# Altium footprint library adafruit.PCBLIB: 643 footprints (part 24 of 41)
Each footprint in its own frame and in the unit in brackets; x right, y up, seen from the top. Pads: shape width x height; smd on the part's side, far side on the other; paste and mask are expansions set on the pad; w line width, h text height; cw(c..) or ccw(c..) is an arc to the next point about the centre after c.
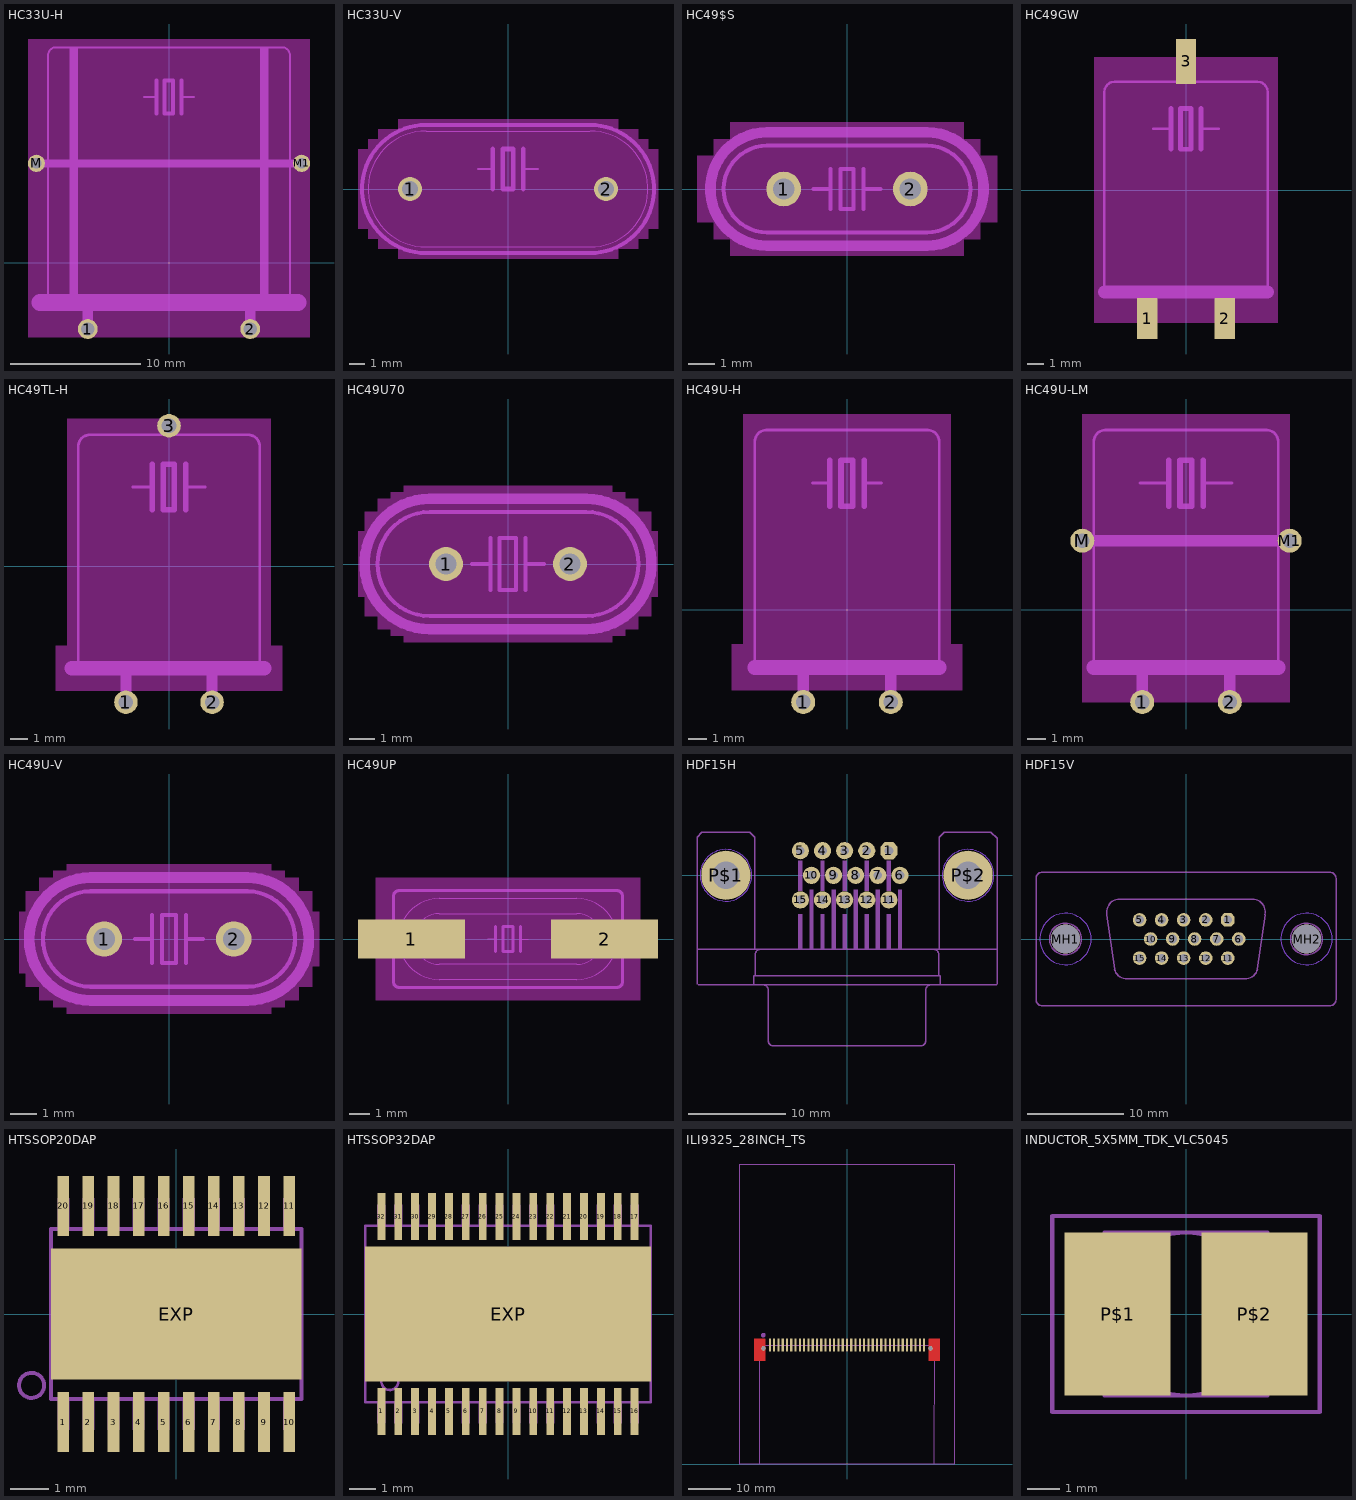
[diagram p23: the footprints below, top view; thin cyan lines are the x and y axes]

## HC33U-H [mil]
pads (4):
  round 60 hole 40: 1(-245,-200) 2(245,-200)
  round 52 hole 32: M(-400,300) M1(400,300)
Top keep-out:
  region: -425,-225 -425,675 425,675 425,-225
tDocu:
  lines w6: -365,280 -365,320 ; 365,280 365,320
  lines w24: -400,300 -360,300 ; 360,300 400,300
  lines w32: -245,-200 -245,-125 ; 245,-200 245,-125
tPlace:
  region: -300,-125 -300,650 -275,650 -275,-125
  region: 275,-125 275,650 300,650 300,-125
  lines w6: -365,-120 -365,280 ; -365,320 -365,625 cw(c-340,625) -340,650 340,650 cw(c340,625) 365,625 365,320 ; -75,500 -37,500 ; 37,500 75,500 ; 365,-120 365,280
  lines w12: -37,450 -37,500 -37,550 ; 37,450 37,500 37,550 ; -13,450 -13,550 12,550 12,450 -13,450
  lines w24: -355,300 355,300
  lines w50: -390,-120 -365,-120 365,-120 390,-120

## HC33U-V [mil]
pads (2):
  round 60 hole 40: 1(-245,0) 2(245,0)
Top keep-out:
  region: -325,-150 -325,150 -275,150 -275,-150
  region: -350,-125 -350,125 -325,125 -325,-125
  region: -375,-100 -375,100 -350,100 -350,-100
  region: -275,-175 -275,175 275,175 275,-175
  region: 275,-150 275,150 325,150 325,-150
  region: 325,-125 325,125 350,125 350,-125
  region: 350,-100 350,100 375,100 375,-100
tPlace:
  lines w2: -205,-145 205,-145 ccw(c205,0) 205,145 -205,145 ccw(c-205,0) -205,-145
  lines w6: -75,50 -38,50 ; 38,50 75,50
  lines w10: -205,-160 205,-160 ccw(c205,0) 205,160 -205,160 ccw(c-205,0) -205,-160
  lines w12: -38,0 -38,50 -38,100 ; 38,0 38,50 38,100 ; -13,0 -13,100 13,100 13,0 -13,0

## HC49$S [mil]
pads (2):
  round 52 hole 32: 1(-95,0) 2(95,0)
Top keep-out:
  region: -175,-100 -175,100 175,100 175,-100
  region: -200,-75 -200,75 -175,75 -175,-75
  region: -225,-50 -225,50 -200,50 -200,-50
  region: 175,-75 175,75 200,75 200,-75
  region: 200,-50 200,50 225,50 225,-50
tPlace:
  lines w6: -50,0 -25,0 ; -25,-30 -25,0 ; -25,30 -25,0 ; 25,-30 25,0 ; 25,30 25,0 ; 50,0 25,0 ; -120,-65 120,-65 ccw(c120,0) 120,65 -120,65 ccw(c-120,0) -120,-65 ; -10,-30 10,-30 10,30 -10,30 -10,-30
  lines w16: -120,-85 120,-85 ccw(c120,0) 120,85 -120,85 ccw(c-120,0) -120,-85

## HC49GW [mil]
pads (3):
  rect 50x100 smd: 1(-95,-315) 2(95,-315)
  rect 50x110 smd: 3(0,315)
Top keep-out:
  region: -225,-325 -225,325 225,325 225,-325
tDocu:
  lines w6: -40,265 40,265
  lines w24: -95,-325 -95,-260 ; 0,275 0,330 ; 95,-330 95,-255
tPlace:
  lines w6: -200,-250 -200,240 cw(c-175,240) -175,265 -40,265 ; -80,150 -37,150 ; 37,150 80,150 ; 40,265 175,265 cw(c175,240) 200,240 200,-250
  lines w12: -37,100 -37,150 -37,200 ; 37,100 37,150 37,200 ; -13,100 -13,200 12,200 12,100 -13,100
  lines w32: -200,-250 200,-250

## HC49TL-H [mil]
pads (3):
  round 52 hole 32: 1(-95,-300) 2(95,-300) 3(0,310)
Top keep-out:
  region: -250,-275 -250,-175 250,-175 250,-275
  region: -225,-175 -225,325 225,325 225,-175
tDocu:
  region: -12,290 -12,298 12,298 12,290
  lines w6: -45,290 45,290
  lines w24: -95,-300 -95,-230 ; 0,300 0,310 ; 95,-300 95,-230
tPlace:
  lines w6: -200,-225 -200,265 cw(c-175,265) -175,290 -45,290 ; -80,175 -37,175 ; 37,175 80,175 ; 45,290 175,290 cw(c175,265) 200,265 200,-225
  lines w12: -37,125 -37,175 -37,225 ; 37,125 37,175 37,225 ; -13,125 -13,225 12,225 12,125 -13,125
  lines w32: -215,-225 210,-225

## HC49U70 [mil]
pads (2):
  round 52 hole 32: 1(-95,0) 2(95,0)
Top keep-out:
  region: -180,-110 -180,110 -160,110 -160,-110
  region: -200,-100 -200,100 -180,100 -180,-100
  region: -220,-80 -220,80 -200,80 -200,-80
  region: -230,-50 -230,50 -220,50 -220,-50
  region: -160,-120 -160,120 160,120 160,-120
  region: 160,-110 160,110 180,110 180,-110
  region: 180,-100 180,100 200,100 200,-100
  region: 200,-80 200,80 220,80 220,-80
  region: 220,-50 220,50 230,50 230,-50
tPlace:
  lines w6: -55,0 -27,0 ; -27,-40 -27,0 ; -27,40 -27,0 ; 27,-40 27,0 ; 27,40 27,0 ; 55,0 27,0 ; -120,-80 120,-80 ccw(c120,0) 120,80 -120,80 ccw(c-120,0) -120,-80 ; -13,-40 -13,40 12,40 12,-40 -13,-40
  lines w16: -120,-100 120,-100 ccw(c120,0) 120,100 -120,100 ccw(c-120,0) -120,-100

## HC49U-H [mil]
pads (2):
  round 52 hole 32: 1(-95,-200) 2(95,-200)
Top keep-out:
  region: -250,-175 -250,-75 250,-75 250,-175
  region: -225,-75 -225,425 225,425 225,-75
tDocu:
  lines w24: -95,-200 -95,-130 ; 95,-200 95,-130
tPlace:
  lines w6: -200,-125 -200,365 cw(c-175,365) -175,390 175,390 cw(c175,365) 200,365 200,-125 ; -75,275 -37,275 ; 37,275 75,275
  lines w12: -37,225 -37,275 -37,325 ; 37,225 37,275 37,325 ; -13,225 -13,325 12,325 12,225 -13,225
  lines w32: -200,-125 200,-125

## HC49U-LM [mil]
pads (4):
  round 52 hole 32: 1(-95,-200) 2(95,-200) M(-225,150) M1(225,150)
Top keep-out:
  region: -225,-200 -225,425 225,425 225,-200
tDocu:
  lines w6: -200,125 -200,175 ; 200,120 200,150 200,180
  lines w24: -225,150 -185,150 ; -95,-200 -95,-130 ; 95,-200 95,-130 ; 180,150 200,150 225,150
tPlace:
  lines w6: -200,-125 -200,125 ; -200,175 -200,365 cw(c-175,365) -175,390 175,390 cw(c175,365) 200,365 200,180 ; -100,275 -37,275 ; 37,275 100,275 ; 200,-125 200,120
  lines w12: -37,225 -37,275 -37,325 ; 37,225 37,275 37,325 ; -13,225 -13,325 12,325 12,225 -13,225
  lines w24: -180,150 180,150
  lines w32: -200,-125 200,-125

## HC49U-V [mil]
pads (2):
  round 52 hole 32: 1(-95,0) 2(95,0)
Top keep-out:
  region: -150,-110 -150,110 150,110 150,-110
  region: -170,-100 -170,100 -150,100 -150,-100
  region: -190,-90 -190,90 -170,90 -170,-90
  region: -210,-70 -210,70 -190,70 -190,-70
  region: -220,-50 -220,40 -210,40 -210,-50
  region: 150,-100 150,100 170,100 170,-100
  region: 170,-90 170,90 190,90 190,-90
  region: 190,-70 190,70 210,70 210,-70
  region: 210,-40 210,40 220,40 220,-40
tPlace:
  lines w6: -50,0 -25,0 ; -25,-35 -25,0 ; -25,35 -25,0 ; 25,-35 25,0 ; 25,35 25,0 ; 50,0 25,0 ; -115,-70 115,-70 ccw(c115,0) 115,70 -115,70 ccw(c-115,0) -115,-70 ; -10,-35 10,-35 10,35 -10,35 -10,-35
  lines w16: -115,-90 115,-90 ccw(c115,0) 115,90 -115,90 ccw(c-115,0) -115,-90

## HC49UP [mil]
pads (2):
  rect 210x76 smd: 1(-190,0) 2(190,0)
Top keep-out:
  region: -260,-120 -260,120 260,120 260,-120
tDocu:
  lines w2: -201.15,-45 cw(c-135,0) -201.15,45 ; -156.8,-45 cw(c-135,0) -156.8,45 ; 156.8,-45 ccw(c135,0) 156.8,45 ; 201.15,-45 ccw(c135,0) 201.15,45
  lines w6: -225,-45 -225,-15 ; -225,45 -225,15 ; 225,-45 225,45 ; 225,-15 255,-15 255,15 225,15 ; -225,-15 -225,15 ; -225,-15 -255,-15 -255,15 -225,15
tPlace:
  lines w2: -201.15,-45 ccw(c-135,0) -135,-80 135,-80 ccw(c135,0) 201.14,-45 ; -201.15,45 cw(c-135,-0.01) -135,80 135,80 cw(c135,0) 201.15,45 ; -156.8,-45 ccw(c-135,0.01) -135,-50 135,-50 ccw(c135,0.01) 156.8,-45 ; -156.8,45 cw(c-135,-0.01) -135,50 135,50 cw(c135,-0.01) 156.8,45 ; -40,0 -25,0 ; 25,0 40,0
  lines w6: -225,-45 -225,-85 ccw(c-215,-85) -215,-95 215,-95 ccw(c215,-85) 225,-85 225,-45 ; -225,45 -225,85 cw(c-215,85) -215,95 215,95 cw(c215,85) 225,85 225,45 ; -25,-25 -25,0 -25,25 ; 25,-25 25,0 25,25 ; -10,-25 -10,25 10,25 10,-25 -10,-25

## HDF15H [mil]
pads (17):
  oct 70x70 / inner round 64.67 / far side oct 70x70 hole 35.43: 1(170.43,100)
  round 70 hole 35.43: 2(80.43,100) 3(-9.57,100) 4(-99.57,100) 5(-189.57,100) 6(215.43,0) 7(125.43,0) 8(35.43,0) 9(-54.57,0) 10(-144.57,0) 11(170.43,-100) 12(80.43,-100) 13(-9.57,-100) 14(-99.57,-100) 15(-189.57,-100)
  round 200 hole 110.24: P$1(-492.13,0) P$2(492.13,0)
Top keep-out:
  circle w0: c492.13,0 r105
  circle w0: c-492.13,0 r105
Bottom keep-out:
  circle w0: c492.13,0 r105
  circle w0: c-492.13,0 r105
tDocu:
  text "HDF15 CONEC" at -238.74,-579.41 h77.5
tPlace:
  circle w6: c492.13,0 r65
  circle w6: c-492.13,0 r65
  region: 27.56,-299.21 27.56,-59.06 43.31,-59.06 43.31,-299.21
  region: -62.44,-299.21 -62.44,-59.06 -46.69,-59.06 -46.69,-299.21
  region: -152.44,-299.21 -152.44,-59.06 -136.69,-59.06 -136.69,-299.21
  region: 117.56,-299.21 117.56,-59.06 133.31,-59.06 133.31,-299.21
  region: 207.56,-299.21 207.56,-59.06 223.31,-59.06 223.31,-299.21
  region: -17.44,-299.21 -17.44,-157.48 -1.69,-157.48 -1.69,-299.21
  region: -107.44,-299.21 -107.44,-157.48 -91.69,-157.48 -91.69,-299.21
  region: -197.44,-299.21 -197.44,-157.48 -181.69,-157.48 -181.69,-299.21
  region: 72.56,-299.21 72.56,-157.48 88.31,-157.48 88.31,-299.21
  region: 162.56,-299.21 162.56,-157.48 178.31,-157.48 178.31,-299.21
  region: -197.44,-62.99 -197.44,59.06 -181.69,59.06 -181.69,-62.99
  region: -107.44,-62.99 -107.44,59.06 -91.69,59.06 -91.69,-62.99
  region: -17.44,-62.99 -17.44,59.06 -1.69,59.06 -1.69,-62.99
  region: 72.56,-62.99 72.56,59.06 88.31,59.06 88.31,-62.99
  region: 162.56,-62.99 162.56,59.06 178.31,59.06 178.31,-62.99
  lines w6: -610,-443.94 -610,-300 ; -605.51,-444.65 609.29,-444.65 ; -378.5,-443.94 -378.5,-408.19 -373.5,-408.19 ; -375,-300 -375,155 -395,175 -590,175 -610,155 -610,-300 ; -348.5,-300 ccw(c-348.5,-325) -373.5,-325 -373.5,-408.19 ; -345,-444.25 cw(c-345,-469.25) -320,-469.25 -320,-673.19 ccw(c-300,-673.19) -300,-693.19 300,-693.19 ccw(c300,-673.19) 320,-673.19 320,-469.25 cw(c345,-469.25) 345,-444.25 ; 348.5,-300 cw(c348.5,-325) 373.5,-325 373.5,-408.19 ; 375,-300 375,155 395,175 585,175 610,150 610,-443.94 ; 378.5,-443.94 378.5,-408.19 373.5,-408.19 ; 609.25,-300 -610,-300 ; -373.5,-408.19 373.5,-408.19
  text "1" at 215.75,82.48 h77.5
  text "5" at -272.24,78.54 h77.5
  text "6" at 259.06,-22.24 h77.5
  text "10" at -280.12,-26.18 h77.5
  text "15" at -307.87,-140.35 h77.5
  text "11" at 235.43,-128.54 h77.5
  text "Female" at 95,-380 h77.5

## HDF15V [mm]
pads (17):
  oct 1.408x1.408 / inner round 1.301 / far side oct 1.408x1.408 hole 0.9: 1(4.329,1.98)
  round 1.408 hole 0.9: 2(2.043,1.98) 3(-0.243,1.98) 4(-2.529,1.98) 5(-4.815,1.98) 6(5.472,0) 7(3.186,0) 8(0.9,0) 9(-1.386,0) 10(-3.672,0) 11(4.329,-1.98) 12(2.043,-1.98) 13(-0.243,-1.98) 14(-2.529,-1.98) 15(-4.815,-1.98)
  round 3 hole 3 unplated: MH1(-12.5,0) MH2(12.5,0)
Top keep-out:
  circle w0: c12.5,0 r2.667
  circle w0: c-12.5,0 r2.667
Bottom keep-out:
  circle w0: c12.5,0 r2.667
  circle w0: c-12.5,0 r2.667
tDocu:
  text "HDF15 CONEC" at -12.033,5.349 h1.97
tPlace:
  circle w0.152: c12.5,0 r1.651
  circle w0.152: c-12.5,0 r1.651
  lines w0.152: -14.921,-6.923 cw(c-14.921,-6.288) -15.556,-6.288 -15.556,6.288 cw(c-14.921,6.288) -14.921,6.923 14.913,6.923 ; -14.913,-6.923 14.921,-6.923 ccw(c14.921,-6.288) 15.556,-6.288 15.556,6.288 ccw(c14.921,6.288) 14.921,6.923 ; -8.196,2.527 cw(c-6.876,2.791) -6.876,4.137 6.876,4.137 cw(c6.876,2.791) 8.191,2.504 ; -8.197,2.537 -7.409,-3.146 ; -7.417,-3.13 ccw(c-6.114,-2.791) -6.114,-4.137 6.114,-4.137 ccw(c6.114,-2.791) 7.417,-3.13 ; 7.409,-3.121 8.197,2.511
  text "1" at 5.48,1.535 h1.97
  text "5" at -6.915,1.435 h1.57
  text "6" at 6.58,-0.565 h1.57
  text "10" at -7.115,-0.665 h1.57
  text "15" at -7.22,-3.165 h1.57
  text "11" at 5.38,-2.705 h1.57
  text "Female" at 2.413,4.826 h1.97

## HTSSOP20DAP [mil]
pads (21):
  rect 11.81x61.02 smd: 1(-115.16,-110.24) 2(-89.57,-110.24) 3(-63.98,-110.24) 4(-38.39,-110.24) 5(-12.8,-110.24) 6(12.8,-110.24) 7(38.39,-110.24) 8(63.98,-110.24) 9(89.57,-110.24) 10(115.16,-110.24) 11(115.16,110.24) 12(89.57,110.24) 13(63.98,110.24) 14(38.39,110.24) 15(12.8,110.24) 16(-12.8,110.24) 17(-38.39,110.24) 18(-63.98,110.24) 19(-89.57,110.24) 20(-115.16,110.24)
  rect 255.91x133.86 smd paste+0 mask+0: EXP(0,0)
Top Paste:
  region: -65.75,53.94 65.75,53.94 65.75,-53.94 -65.75,-53.94
Top Solder:
  region: -67.52,54.13 67.52,54.13 67.52,-54.13 -67.52,-54.13
tDocu:
  region: -121.06,-118.11 -121.06,-88.58 -109.25,-88.58 -109.25,-118.11
  region: -95.47,-118.11 -95.47,-88.58 -83.66,-88.58 -83.66,-118.11
  region: -69.88,-118.11 -69.88,-88.58 -58.07,-88.58 -58.07,-118.11
  region: -44.29,-118.11 -44.29,-88.58 -32.48,-88.58 -32.48,-118.11
  region: -18.7,-118.11 -18.7,-88.58 -6.89,-88.58 -6.89,-118.11
  region: 6.89,-118.11 6.89,-88.58 18.7,-88.58 18.7,-118.11
  region: 32.48,-118.11 32.48,-88.58 44.29,-88.58 44.29,-118.11
  region: 58.07,-118.11 58.07,-88.58 69.88,-88.58 69.88,-118.11
  region: 83.66,-118.11 83.66,-88.58 95.47,-88.58 95.47,-118.11
  region: 121.06,118.11 121.06,88.58 109.25,88.58 109.25,118.11
  region: 95.47,118.11 95.47,88.58 83.66,88.58 83.66,118.11
  region: 69.88,118.11 69.88,88.58 58.07,88.58 58.07,118.11
  region: 44.29,118.11 44.29,88.58 32.48,88.58 32.48,118.11
  region: 18.7,118.11 18.7,88.58 6.89,88.58 6.89,118.11
  region: -6.89,118.11 -6.89,88.58 -18.7,88.58 -18.7,118.11
  region: -32.48,118.11 -32.48,88.58 -44.29,88.58 -44.29,118.11
  region: -58.07,118.11 -58.07,88.58 -69.88,88.58 -69.88,118.11
  region: -83.66,118.11 -83.66,88.58 -95.47,88.58 -95.47,118.11
  region: -109.25,118.11 -109.25,88.58 -121.06,88.58 -121.06,118.11
  region: 109.25,-118.11 109.25,-88.58 121.06,-88.58 121.06,-118.11
tPlace:
  circle w4: c-147.64,-72.83 r12.8
  lines w4: -127.95,-86.61 127.95,-86.61 127.95,86.61 -127.95,86.61 -127.95,-86.61

## HTSSOP32DAP [mil]
pads (33):
  rect 11.81x70.87 smd: 1(-191.93,-147.64) 2(-166.34,-147.64) 3(-140.75,-147.64) 4(-115.16,-147.64) 5(-89.57,-147.64) 6(-63.98,-147.64) 7(-38.39,-147.64) 8(-12.8,-147.64) 9(12.8,-147.64) 10(38.39,-147.64) 11(63.98,-147.64) 12(89.57,-147.64) 13(115.16,-147.64) 14(140.75,-147.64) 15(166.34,-147.64) 16(191.93,-147.64) 17(191.93,147.64) 18(166.34,147.64) 19(140.75,147.64) 20(115.16,147.64) 21(89.57,147.64) 22(63.98,147.64) 23(38.39,147.64) 24(12.8,147.64) 25(-12.8,147.64) 26(-38.39,147.64) 27(-63.98,147.64) 28(-89.57,147.64) 29(-115.16,147.64) 30(-140.75,147.64) 31(-166.34,147.64) 32(-191.93,147.64)
  rect 433.07x204.72 smd paste+0 mask+0: EXP(0,0)
Top Paste:
  region: -70.87,-47.24 -70.87,47.24 70.87,47.24 70.87,-47.24
Top Solder:
  region: -86.61,82.68 86.61,82.68 86.61,-82.68 -86.61,-82.68
tDocu:
  region: -197.83,-165.35 -197.83,-135.83 -186.02,-135.83 -186.02,-165.35
  region: -172.24,-165.35 -172.24,-135.83 -160.43,-135.83 -160.43,-165.35
  region: -146.65,-165.35 -146.65,-135.83 -134.84,-135.83 -134.84,-165.35
  region: -121.06,-165.35 -121.06,-135.83 -109.25,-135.83 -109.25,-165.35
  region: -95.47,-165.35 -95.47,-135.83 -83.66,-135.83 -83.66,-165.35
  region: -69.88,-165.35 -69.88,-135.83 -58.07,-135.83 -58.07,-165.35
  region: -44.29,-165.35 -44.29,-135.83 -32.48,-135.83 -32.48,-165.35
  region: -18.7,-165.35 -18.7,-135.83 -6.89,-135.83 -6.89,-165.35
  region: 6.89,-165.35 6.89,-135.83 18.7,-135.83 18.7,-165.35
  region: 32.48,-165.35 32.48,-135.83 44.29,-135.83 44.29,-165.35
  region: 58.07,-165.35 58.07,-135.83 69.88,-135.83 69.88,-165.35
  region: 83.66,-165.35 83.66,-135.83 95.47,-135.83 95.47,-165.35
  region: 109.25,-165.35 109.25,-135.83 121.06,-135.83 121.06,-165.35
  region: 134.84,-165.35 134.84,-135.83 146.65,-135.83 146.65,-165.35
  region: 160.43,-165.35 160.43,-135.83 172.24,-135.83 172.24,-165.35
  region: 186.02,-165.35 186.02,-135.83 197.83,-135.83 197.83,-165.35
  region: 197.83,165.35 197.83,135.83 186.02,135.83 186.02,165.35
  region: 172.24,165.35 172.24,135.83 160.43,135.83 160.43,165.35
  region: 146.65,165.35 146.65,135.83 134.84,135.83 134.84,165.35
  region: 121.06,165.35 121.06,135.83 109.25,135.83 109.25,165.35
  region: 95.47,165.35 95.47,135.83 83.66,135.83 83.66,165.35
  region: 69.88,165.35 69.88,135.83 58.07,135.83 58.07,165.35
  region: 44.29,165.35 44.29,135.83 32.48,135.83 32.48,165.35
  region: 18.7,165.35 18.7,135.83 6.89,135.83 6.89,165.35
  region: -6.89,165.35 -6.89,135.83 -18.7,135.83 -18.7,165.35
  region: -32.48,165.35 -32.48,135.83 -44.29,135.83 -44.29,165.35
  region: -58.07,165.35 -58.07,135.83 -69.88,135.83 -69.88,165.35
  region: -83.66,165.35 -83.66,135.83 -95.47,135.83 -95.47,165.35
  region: -109.25,165.35 -109.25,135.83 -121.06,135.83 -121.06,165.35
  region: -134.84,165.35 -134.84,135.83 -146.65,135.83 -146.65,165.35
  region: -160.43,165.35 -160.43,135.83 -172.24,135.83 -172.24,165.35
  region: -186.02,165.35 -186.02,135.83 -197.83,135.83 -197.83,165.35
tPlace:
  circle w4: c-179.13,-102.36 r12.8
  lines w4: -216.54,-133.86 216.54,-133.86 216.54,133.86 -216.54,133.86 -216.54,-133.86

## ILI9325_28INCH_TS [mm]
pads (39):
  rect 0.5x3 smd: 1(-18,27.77) 2(-17,27.77) 3(-16,27.77) 4(-15,27.77) 5(-14,27.77) 6(-13,27.77) 7(-12,27.77) 8(-11,27.77) 9(-10,27.77) 10(-9,27.77) 11(-8,27.77) 12(-7,27.77) 13(-6,27.77) 14(-5,27.77) 15(-4,27.77) 16(-3,27.77) 17(-2,27.77) 18(-1,27.77) 19(0,27.77) 20(1,27.77) 21(2,27.77) 22(3,27.77) 23(4,27.77) 24(5,27.77) 25(6,27.77) 26(7,27.77) 27(8,27.77) 28(9,27.77) 29(10,27.77) 30(11,27.77) 31(12,27.77) 32(13,27.77) 33(14,27.77) 34(15,27.77) 35(16,27.77) 36(17,27.77) 37(18,27.77)
  round 1 hole 1 unplated: MH1(-19.5,27) MH2(19.5,27)
Top:
  region: -21.59,24.13 -21.59,29.21 -19.05,29.21 -19.05,24.13
  region: 19.05,24.13 19.05,29.21 21.59,29.21 21.59,24.13
Top Solder:
  region: -21.59,24.13 -21.59,29.21 -19.05,29.21 -19.05,24.13
  region: 19.05,24.13 19.05,29.21 21.59,29.21 21.59,24.13
tPlace:
  circle w0.61: c-19.534,30.054 r0.254
  lines w0.127: -20.4,0 -20.4,27.686 20.4,27.686 20.3,0 ; -20.4,0 20.3,0 ; -20.4,0 -25,0 -25,70 25,70 25,0 20.3,0

## INDUCTOR_5X5MM_TDK_VLC5045 [mm]
pads (2):
  rect 3.25x5 smd: P$1(-2.1,0) P$2(2.1,0)
tDocu:
  circle w0.127: c0,0 r2.5
  lines w0.127: -2.5,-2.5 2.5,-2.5 2.5,2.5 -2.5,2.5 -2.5,-2.5
tPlace:
  lines w0.127: -4.1,-3 4.1,-3 4.1,3 -4.1,3 -4.1,-3